# EAGLE library part UBISWITCH_REV_A_MODULE (library UBISWITCH_REV_A_MODULE)
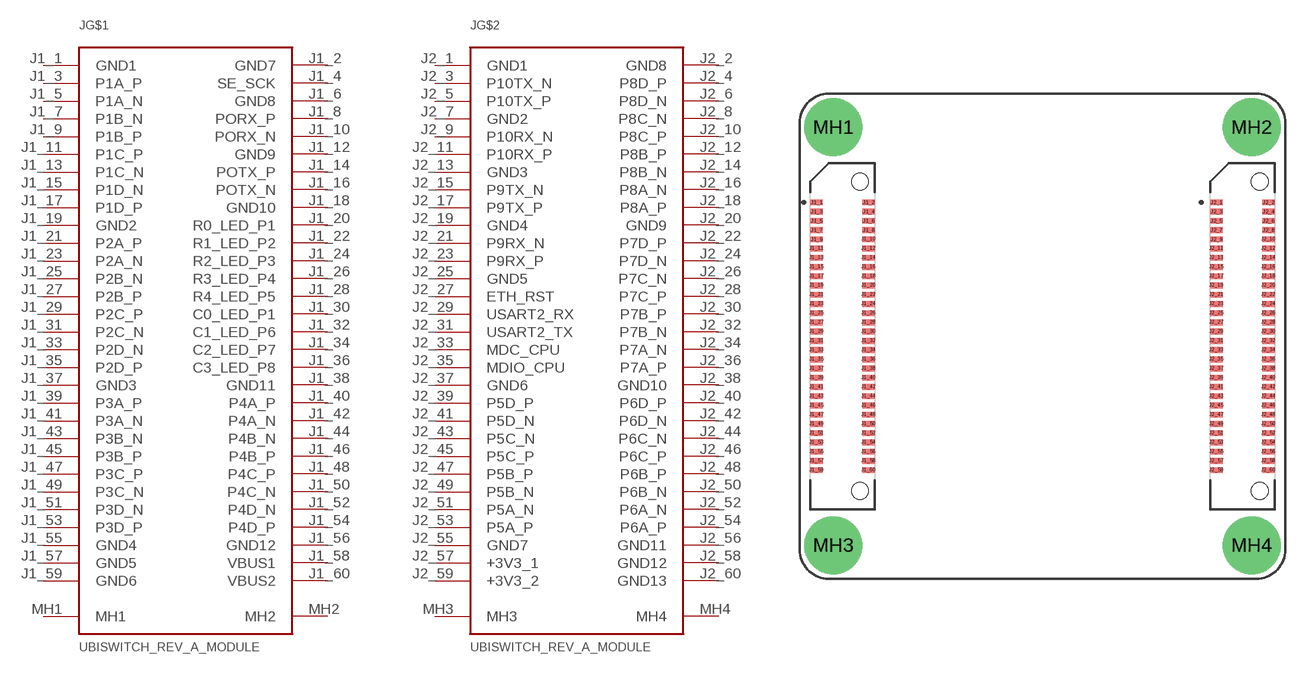
[diagram p0: symbol with the pads of UBISWITCH_REV_A_MODULE; footprint UBISWITCH_REV_A_MODULE]

Designator prefix J; gates G$1=UBISWITCH_REV_A_MODULE_PART1 G$2=UBISWITCH_REV_A_MODULE_PART2

## UBISWITCH_REV_A_MODULE  [UBISWITCH_REV_A_MODULE]
J1_1  G$1:GND1  pwr
J1_2  G$1:GND7  pwr
J1_3  G$1:P1A_P
J1_4  G$1:SE_SCK
J1_5  G$1:P1A_N
J1_6  G$1:GND8  pwr
J1_7  G$1:P1B_N
J1_8  G$1:PORX_P
J1_9  G$1:P1B_P
J1_10  G$1:PORX_N
J1_11  G$1:P1C_P
J1_12  G$1:GND9  pwr
J1_13  G$1:P1C_N
J1_14  G$1:POTX_P
J1_15  G$1:P1D_N
J1_16  G$1:POTX_N
J1_17  G$1:P1D_P
J1_18  G$1:GND10  pwr
J1_19  G$1:GND2  pwr
J1_20  G$1:R0_LED_P1
J1_21  G$1:P2A_P
J1_22  G$1:R1_LED_P2
J1_23  G$1:P2A_N
J1_24  G$1:R2_LED_P3
J1_25  G$1:P2B_N
J1_26  G$1:R3_LED_P4
J1_27  G$1:P2B_P
J1_28  G$1:R4_LED_P5
J1_29  G$1:P2C_P
J1_30  G$1:C0_LED_P1
J1_31  G$1:P2C_N
J1_32  G$1:C1_LED_P6
J1_33  G$1:P2D_N
J1_34  G$1:C2_LED_P7
J1_35  G$1:P2D_P
J1_36  G$1:C3_LED_P8
J1_37  G$1:GND3  pwr
J1_38  G$1:GND11  pwr
J1_39  G$1:P3A_P
J1_40  G$1:P4A_P
J1_41  G$1:P3A_N
J1_42  G$1:P4A_N
J1_43  G$1:P3B_N
J1_44  G$1:P4B_N
J1_45  G$1:P3B_P
J1_46  G$1:P4B_P
J1_47  G$1:P3C_P
J1_48  G$1:P4C_P
J1_49  G$1:P3C_N
J1_50  G$1:P4C_N
J1_51  G$1:P3D_N
J1_52  G$1:P4D_N
J1_53  G$1:P3D_P
J1_54  G$1:P4D_P
J1_55  G$1:GND4  pwr
J1_56  G$1:GND12
J1_57  G$1:GND5  pwr
J1_58  G$1:VBUS1  pwr
J1_59  G$1:GND6  pwr
J1_60  G$1:VBUS2  pwr
J2_1  G$2:GND1  pwr
J2_2  G$2:GND8  pwr
J2_3  G$2:P10TX_N
J2_4  G$2:P8D_P
J2_5  G$2:P10TX_P
J2_6  G$2:P8D_N
J2_7  G$2:GND2  pwr
J2_8  G$2:P8C_N
J2_9  G$2:P10RX_N
J2_10  G$2:P8C_P
J2_11  G$2:P10RX_P
J2_12  G$2:P8B_P
J2_13  G$2:GND3  pwr
J2_14  G$2:P8B_N
J2_15  G$2:P9TX_N
J2_16  G$2:P8A_N
J2_17  G$2:P9TX_P
J2_18  G$2:P8A_P
J2_19  G$2:GND4  pwr
J2_20  G$2:GND9  pwr
J2_21  G$2:P9RX_N
J2_22  G$2:P7D_P
J2_23  G$2:P9RX_P
J2_24  G$2:P7D_N
J2_25  G$2:GND5  pwr
J2_26  G$2:P7C_N
J2_27  G$2:ETH_RST
J2_28  G$2:P7C_P
J2_29  G$2:USART2_RX
J2_30  G$2:P7B_P
J2_31  G$2:USART2_TX
J2_32  G$2:P7B_N
J2_33  G$2:MDC_CPU
J2_34  G$2:P7A_N
J2_35  G$2:MDIO_CPU
J2_36  G$2:P7A_P
J2_37  G$2:GND6  pwr
J2_38  G$2:GND10  pwr
J2_39  G$2:P5D_P
J2_40  G$2:P6D_P
J2_41  G$2:P5D_N
J2_42  G$2:P6D_N
J2_43  G$2:P5C_N
J2_44  G$2:P6C_N
J2_45  G$2:P5C_P
J2_46  G$2:P6C_P
J2_47  G$2:P5B_P
J2_48  G$2:P6B_P
J2_49  G$2:P5B_N
J2_50  G$2:P6B_N
J2_51  G$2:P5A_N
J2_52  G$2:P6A_N
J2_53  G$2:P5A_P
J2_54  G$2:P6A_P
J2_55  G$2:GND7  pwr
J2_56  G$2:GND11
J2_57  G$2:+3V3_1  pwr
J2_58  G$2:GND12  pwr
J2_59  G$2:+3V3_2  pwr
J2_60  G$2:GND13  pwr
MH1  G$1:MH1
MH2  G$1:MH2
MH3  G$2:MH3
MH4  G$2:MH4

## Footprint UBISWITCH_REV_A_MODULE (pad centres in mm)
smd 1.1 x 0.5: J1_1 -19.55,11.6; J1_2 -15.05,11.6; J1_3 -19.55,10.8; J1_4 -15.05,10.8; J1_5 -19.55,10; J1_6 -15.05,10; J1_7 -19.55,9.2; J1_8 -15.05,9.2; J1_9 -19.55,8.4; J1_10 -15.05,8.4; J1_11 -19.55,7.6; J1_12 -15.05,7.6; J1_13 -19.55,6.8; J1_14 -15.05,6.8; J1_15 -19.55,6; J1_16 -15.05,6; J1_17 -19.55,5.2; J1_18 -15.05,5.2; J1_19 -19.55,4.4; J1_20 -15.05,4.4; J1_21 -19.55,3.6; J1_22 -15.05,3.6; J1_23 -19.55,2.8; J1_24 -15.05,2.8; J1_25 -19.55,2; J1_26 -15.05,2; J1_27 -19.55,1.2; J1_28 -15.05,1.2; J1_29 -19.55,0.4; J1_30 -15.05,0.4; J1_31 -19.55,-0.4; J1_32 -15.05,-0.4; J1_33 -19.55,-1.2; J1_34 -15.05,-1.2; J1_35 -19.55,-2; J1_36 -15.05,-2; J1_37 -19.55,-2.8; J1_38 -15.05,-2.8; J1_39 -19.55,-3.6; J1_40 -15.05,-3.6; J1_41 -19.55,-4.4; J1_42 -15.05,-4.4; J1_43 -19.55,-5.2; J1_44 -15.05,-5.2; J1_45 -19.55,-6; J1_46 -15.05,-6; J1_47 -19.55,-6.8; J1_48 -15.05,-6.8; J1_49 -19.55,-7.6; J1_50 -15.05,-7.6; J1_51 -19.55,-8.4; J1_52 -15.05,-8.4; J1_53 -19.55,-9.2; J1_54 -15.05,-9.2; J1_55 -19.55,-10; J1_56 -15.05,-10; J1_57 -19.55,-10.8; J1_58 -15.05,-10.8; J1_59 -19.55,-11.6; J1_60 -15.05,-11.6; J2_1 15.05,11.6; J2_2 19.55,11.6; J2_3 15.05,10.8; J2_4 19.55,10.8; J2_5 15.05,10; J2_6 19.55,10; J2_7 15.05,9.2; J2_8 19.55,9.2; J2_9 15.05,8.4; J2_10 19.55,8.4; J2_11 15.05,7.6; J2_12 19.55,7.6; J2_13 15.05,6.8; J2_14 19.55,6.8; J2_15 15.05,6; J2_16 19.55,6; J2_17 15.05,5.2; J2_18 19.55,5.2; J2_19 15.05,4.4; J2_20 19.55,4.4; J2_21 15.05,3.6; J2_22 19.55,3.6; J2_23 15.05,2.8; J2_24 19.55,2.8; J2_25 15.05,2; J2_26 19.55,2; J2_27 15.05,1.2; J2_28 19.55,1.2; J2_29 15.05,0.4; J2_30 19.55,0.4; J2_31 15.05,-0.4; J2_32 19.55,-0.4; J2_33 15.05,-1.2; J2_34 19.55,-1.2; J2_35 15.05,-2; J2_36 19.55,-2; J2_37 15.05,-2.8; J2_38 19.55,-2.8; J2_39 15.05,-3.6; J2_40 19.55,-3.6; J2_41 15.05,-4.4; J2_42 19.55,-4.4; J2_43 15.05,-5.2; J2_44 19.55,-5.2; J2_45 15.05,-6; J2_46 19.55,-6; J2_47 15.05,-6.8; J2_48 19.55,-6.8; J2_49 15.05,-7.6; J2_50 19.55,-7.6; J2_51 15.05,-8.4; J2_52 19.55,-8.4; J2_53 15.05,-9.2; J2_54 19.55,-9.2; J2_55 15.05,-10; J2_56 19.55,-10; J2_57 15.05,-10.8; J2_58 19.55,-10.8; J2_59 15.05,-11.6; J2_60 19.55,-11.6
drill 3.2 pad 5: MH1 -18.1,18.1; MH2 18.1,18.1; MH3 -18.1,-18.1; MH4 18.1,-18.1
hole 1.45 at -15.8,-13.4
hole 1.45 at -15.8,13.4
hole 1.45 at 18.8,-13.4
hole 1.45 at 18.8,13.4